# Altium footprint library BUTTON reset.PcbLib: 3 footprints
Each footprint in its own frame and in the unit in brackets; x right, y up, seen from the top. Pads: shape width x height; smd on the part's side, far side on the other; paste and mask are expansions set on the pad; w line width, h text height; cw(c..) or ccw(c..) is an arc to the next point about the centre after c.
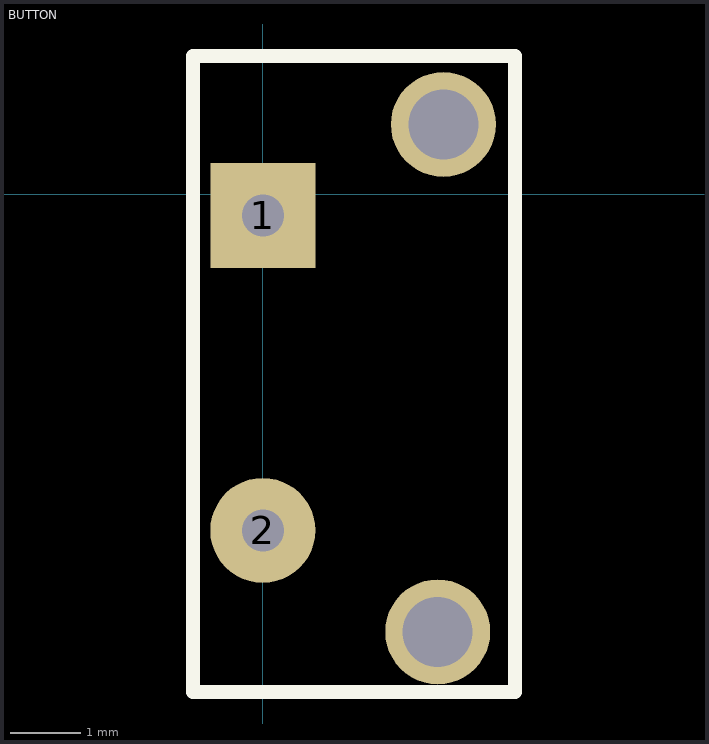
[diagram p0: the footprints below, top view; thin cyan lines are the x and y axes]

## BUTTON [mm]
pads (4):
  rect 1.5x1.5 hole 0.6: 1(0,-0.3)
  round 1.5 hole 0.6: 2(0,-4.8)
  round 1.5 hole 1: ""(2.5,-6.25) ""(2.58,1)
Top Overlay:
  lines w0.2: -1,-7.112 -1,1.981 1.019,1.981 3.607,1.981 3.607,-7.112 -1,-7.112
3D body: height 8.4, standoff -2.5, extent -5.915,-6.833 3.985,1.667

## PCBComponent_1 [mm]

## PCBComponent_1 - duplicate [mm]